# Altium footprint library PcbLib1.PcbLib: 5 footprints
Each footprint in its own frame and in the unit in brackets; x right, y up, seen from the top. Pads: shape width x height; smd on the part's side, far side on the other; paste and mask are expansions set on the pad; w line width, h text height; cw(c..) or ccw(c..) is an arc to the next point about the centre after c.
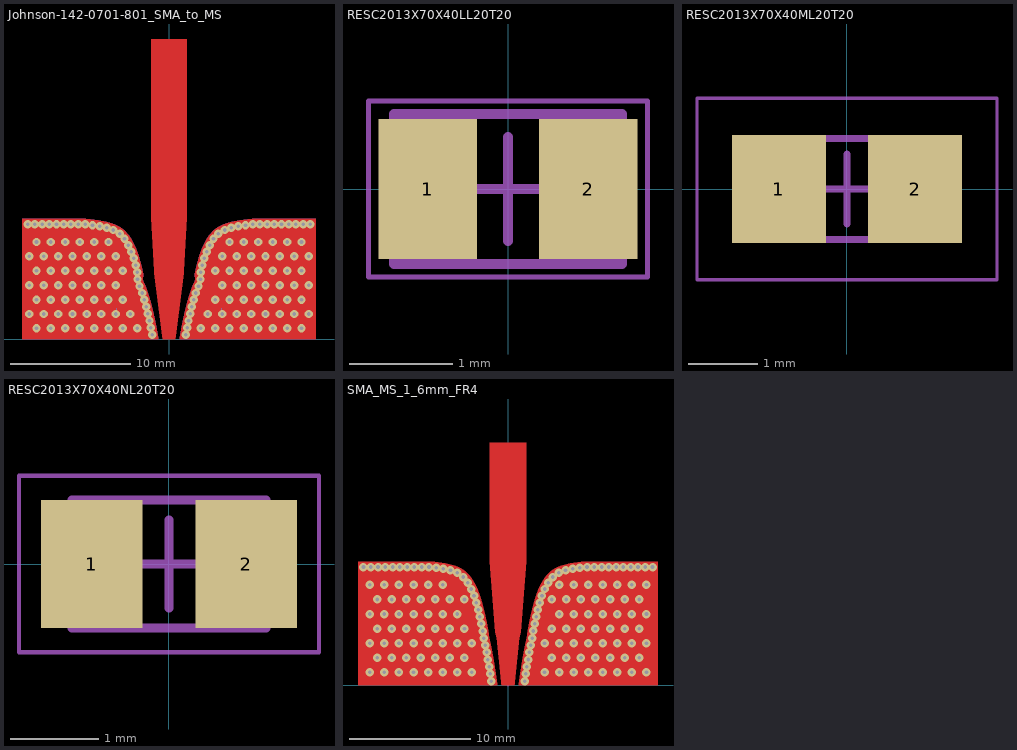
[diagram p0: the footprints below, top view; thin cyan lines are the x and y axes]

## Johnson-142-0701-801_SMA_to_MS [mil] "SMA 1.6mm to Microstrip"
pads (4):
  round 1 smd far side mask+0: 1(-172.5,98.43) 1(172.5,98.43)
  round 1 smd mask+0: 1(-172.5,98.43) 1(172.5,98.43)
via 387.56,223.63 diameter 27.56 hole 11.81
via -245.83,223.63 diameter 27.56 hole 11.81
via -293.07,129.14 diameter 27.56 hole 11.81
via 434.81,34.65 diameter 27.56 hole 11.81
via 151.34,34.65 diameter 27.56 hole 11.81
via 174.96,176.38 diameter 27.56 hole 11.81
via 245.83,223.63 diameter 27.56 hole 11.81
via -222.21,270.87 diameter 27.56 hole 11.81
via -363.94,270.87 diameter 27.56 hole 11.81
via 458.43,81.89 diameter 27.56 hole 11.81
via 293.07,223.63 diameter 27.56 hole 11.81
via 316.69,176.38 diameter 27.56 hole 11.81
via 245.83,318.11 diameter 27.56 hole 11.81
via -293.07,318.11 diameter 27.56 hole 11.81
via -387.56,223.63 diameter 27.56 hole 11.81
via 222.21,81.89 diameter 27.56 hole 11.81
via 245.83,129.14 diameter 27.56 hole 11.81
via 269.45,81.89 diameter 27.56 hole 11.81
via -458.43,81.89 diameter 27.56 hole 11.81
via 387.56,318.11 diameter 27.56 hole 11.81
via -104.1,34.65 diameter 27.56 hole 11.81
via 387.56,34.65 diameter 27.56 hole 11.81
via -198.58,318.11 diameter 27.56 hole 11.81
via -151.34,223.63 diameter 27.56 hole 11.81
via 269.45,270.87 diameter 27.56 hole 11.81
via 174.96,81.89 diameter 27.56 hole 11.81
via 104.1,34.65 diameter 27.56 hole 11.81
via 174.96,270.87 diameter 27.56 hole 11.81
via -411.18,81.89 diameter 27.56 hole 11.81
via -222.21,81.89 diameter 27.56 hole 11.81
via -340.32,34.65 diameter 27.56 hole 11.81
via 363.94,81.89 diameter 27.56 hole 11.81
via -198.58,223.63 diameter 27.56 hole 11.81
via -316.69,176.38 diameter 27.56 hole 11.81
via -387.56,129.14 diameter 27.56 hole 11.81
via -245.83,129.14 diameter 27.56 hole 11.81
via -151.34,34.65 diameter 27.56 hole 11.81
via -293.07,34.65 diameter 27.56 hole 11.81
via 293.07,34.65 diameter 27.56 hole 11.81
via -340.32,129.14 diameter 27.56 hole 11.81
via -340.32,223.63 diameter 27.56 hole 11.81
via -198.58,129.14 diameter 27.56 hole 11.81
via -198.58,34.65 diameter 27.56 hole 11.81
via -316.69,81.89 diameter 27.56 hole 11.81
via 127.72,81.89 diameter 27.56 hole 11.81
via 340.32,129.14 diameter 27.56 hole 11.81
via 151.34,223.63 diameter 27.56 hole 11.81
via 434.81,318.11 diameter 27.56 hole 11.81
via -316.69,270.87 diameter 27.56 hole 11.81
via 151.34,129.14 diameter 27.56 hole 11.81
via -363.94,176.38 diameter 27.56 hole 11.81
via 198.58,34.65 diameter 27.56 hole 11.81
via -434.81,318.11 diameter 27.56 hole 11.81
via 293.07,129.14 diameter 27.56 hole 11.81
via 411.18,270.87 diameter 27.56 hole 11.81
via 340.32,223.63 diameter 27.56 hole 11.81
via 316.69,270.87 diameter 27.56 hole 11.81
via -293.07,223.63 diameter 27.56 hole 11.81
via 245.83,34.65 diameter 27.56 hole 11.81
via 434.81,223.63 diameter 27.56 hole 11.81
via -458.43,176.38 diameter 27.56 hole 11.81
via -151.34,129.14 diameter 27.56 hole 11.81
via 340.32,34.65 diameter 27.56 hole 11.81
via 411.18,81.89 diameter 27.56 hole 11.81
via 363.94,270.87 diameter 27.56 hole 11.81
via -269.45,176.38 diameter 27.56 hole 11.81
via -269.45,81.89 diameter 27.56 hole 11.81
via 363.94,176.38 diameter 27.56 hole 11.81
via -387.56,34.65 diameter 27.56 hole 11.81
via -411.18,176.38 diameter 27.56 hole 11.81
via -340.32,318.11 diameter 27.56 hole 11.81
via -222.21,176.38 diameter 27.56 hole 11.81
via 316.69,81.89 diameter 27.56 hole 11.81
via 458.43,270.87 diameter 27.56 hole 11.81
via 411.18,176.38 diameter 27.56 hole 11.81
via -174.96,81.89 diameter 27.56 hole 11.81
via 387.56,129.14 diameter 27.56 hole 11.81
via -245.83,34.65 diameter 27.56 hole 11.81
via 293.07,318.11 diameter 27.56 hole 11.81
via 198.58,223.63 diameter 27.56 hole 11.81
via 198.58,318.11 diameter 27.56 hole 11.81
via 269.45,176.38 diameter 27.56 hole 11.81
via -127.72,81.89 diameter 27.56 hole 11.81
via 222.21,270.87 diameter 27.56 hole 11.81
via -434.81,34.65 diameter 27.56 hole 11.81
via -245.83,318.11 diameter 27.56 hole 11.81
via -174.96,270.87 diameter 27.56 hole 11.81
via -174.96,176.38 diameter 27.56 hole 11.81
via -458.43,270.87 diameter 27.56 hole 11.81
via 198.58,129.14 diameter 27.56 hole 11.81
via -434.81,223.63 diameter 27.56 hole 11.81
via -411.18,270.87 diameter 27.56 hole 11.81
via -269.45,270.87 diameter 27.56 hole 11.81
via 340.32,318.11 diameter 27.56 hole 11.81
via -434.81,129.14 diameter 27.56 hole 11.81
via 222.21,176.38 diameter 27.56 hole 11.81
via 434.81,129.14 diameter 27.56 hole 11.81
via 458.43,176.38 diameter 27.56 hole 11.81
via -387.56,318.11 diameter 27.56 hole 11.81
via -363.94,81.89 diameter 27.56 hole 11.81
via 133.73,308.18 diameter 27.56 hole 11.81
via 103.46,195.44 diameter 27.56 hole 11.81
via 274.49,376.09 diameter 27.56 hole 11.81
via 439.84,376.09 diameter 27.56 hole 11.81
via 64.04,59.85 diameter 27.56 hole 11.81
via 55.11,13.57 diameter 27.56 hole 11.81
via 74.68,105.76 diameter 27.56 hole 11.81
via 204.7,365.21 diameter 27.56 hole 11.81
via 145.87,328.4 diameter 27.56 hole 11.81
via 109.52,241.95 diameter 27.56 hole 11.81
via 392.6,376.09 diameter 27.56 hole 11.81
via 345.35,376.09 diameter 27.56 hole 11.81
via 251.09,373.33 diameter 27.56 hole 11.81
via 298.11,376.09 diameter 27.56 hole 11.81
via 463.46,376.09 diameter 27.56 hole 11.81
via 104.17,219 diameter 27.56 hole 11.81
via 227.77,369.96 diameter 27.56 hole 11.81
via 416.22,376.09 diameter 27.56 hole 11.81
via 88.17,150.9 diameter 27.56 hole 11.81
via 59.4,36.74 diameter 27.56 hole 11.81
via 115.91,264.63 diameter 27.56 hole 11.81
via 368.98,376.09 diameter 27.56 hole 11.81
via 96.85,172.79 diameter 27.56 hole 11.81
via 123.75,286.85 diameter 27.56 hole 11.81
via 162.11,345.52 diameter 27.56 hole 11.81
via 182.36,357.63 diameter 27.56 hole 11.81
via 321.73,376.09 diameter 27.56 hole 11.81
via 69.12,82.86 diameter 27.56 hole 11.81
via 80.95,128.47 diameter 27.56 hole 11.81
via -80.95,128.47 diameter 27.56 hole 11.81
via -69.12,82.86 diameter 27.56 hole 11.81
via -321.73,376.09 diameter 27.56 hole 11.81
via -182.36,357.63 diameter 27.56 hole 11.81
via -162.11,345.52 diameter 27.56 hole 11.81
via -123.75,286.85 diameter 27.56 hole 11.81
via -96.85,172.79 diameter 27.56 hole 11.81
via -368.98,376.09 diameter 27.56 hole 11.81
via -115.91,264.63 diameter 27.56 hole 11.81
via -59.4,36.74 diameter 27.56 hole 11.81
via -88.17,150.9 diameter 27.56 hole 11.81
via -416.22,376.09 diameter 27.56 hole 11.81
via -227.77,369.96 diameter 27.56 hole 11.81
via -104.17,219 diameter 27.56 hole 11.81
via -463.46,376.09 diameter 27.56 hole 11.81
via -298.11,376.09 diameter 27.56 hole 11.81
via -251.09,373.33 diameter 27.56 hole 11.81
via -345.35,376.09 diameter 27.56 hole 11.81
via -392.6,376.09 diameter 27.56 hole 11.81
via -109.52,241.95 diameter 27.56 hole 11.81
via -145.87,328.4 diameter 27.56 hole 11.81
via -204.7,365.21 diameter 27.56 hole 11.81
via -74.68,105.76 diameter 27.56 hole 11.81
via -55.11,13.57 diameter 27.56 hole 11.81
via -64.04,59.85 diameter 27.56 hole 11.81
via -439.84,376.09 diameter 27.56 hole 11.81
via -274.49,376.09 diameter 27.56 hole 11.81
via -103.46,195.44 diameter 27.56 hole 11.81
via -133.73,308.18 diameter 27.56 hole 11.81
Top Layer:
  drawing of 5 lines, arcs and shapes, not listed
Bottom Layer:
  drawing of 4 lines, arcs and shapes, not listed
Top Solder:
  region: 481.18,216.54 481.18,984.25 -481.18,984.25 -481.18,216.54
  region: -105.31,0.01 105.31,0.01 105.31,196.85 -105.31,196.85
  region: 196.85,0 -196.85,0 -196.85,19.68 196.85,19.68
3D body "142-0701-801.stp": height 171.35, standoff -140.65, extent -187.5,-374.99 187.5,187.01

## RESC2013X70X40LL20T20 [mm] "Chip Resistor, 2-Leads, Body 2.00x1.25mm, IPC High Density"
height 0.7
pads (2):
  rect 0.95x1.35 smd: 1(-0.775,0) 2(0.775,0)
Mechanical 13:
  lines w0.1: -1.1,-0.725 -1.1,0.725 1.1,0.725 1.1,-0.725 -1.1,-0.725
Mechanical 15:
  lines w0.05: -1.35,-0.85 -1.35,0.85 1.35,0.85 1.35,-0.85 -1.35,-0.85
  lines w0.1: -0.5,0 0.5,0 ; 0,-0.5 0,0.5
3D body: height 0.7, standoff 0, extent -0.7,-0.725 0.7,0.725
3D body: height 0.7, standoff 0, extent -1.1,-0.725 -0.7,0.725
3D body: height 0.7, standoff 0, extent 0.7,-0.725 1.1,0.725

## RESC2013X70X40ML20T20 [mm] "Chip Resistor, 2-Leads, Body 2.00x1.25mm, IPC Low Density"
height 0.7
pads (2):
  rect 1.35x1.55 smd: 1(-0.975,0) 2(0.975,0)
Mechanical 13:
  lines w0.1: -1.1,-0.725 1.1,-0.725 1.1,0.725 -1.1,0.725 -1.1,-0.725
Mechanical 15:
  lines w0.05: -2.15,-1.3 2.15,-1.3 2.15,1.3 -2.15,1.3 -2.15,-1.3
  lines w0.1: -0.5,0 0.5,0 ; 0,-0.5 0,0.5
3D body: height 0.7, standoff 0, extent 0.7,-0.725 1.1,0.725
3D body: height 0.7, standoff 0, extent -1.1,-0.725 -0.7,0.725
3D body: height 0.7, standoff 0, extent -0.7,-0.725 0.7,0.725

## RESC2013X70X40NL20T20 [mm] "Chip Resistor, 2-Leads, Body 2.00x1.25mm, IPC Medium Density"
height 0.7
pads (2):
  rect 1.15x1.45 smd: 1(-0.875,0) 2(0.875,0)
Mechanical 13:
  lines w0.1: -1.1,-0.725 -1.1,0.725 1.1,0.725 1.1,-0.725 -1.1,-0.725
Mechanical 15:
  lines w0.05: -1.7,-1 -1.7,1 1.7,1 1.7,-1 -1.7,-1
  lines w0.1: -0.5,0 0.5,0 ; 0,-0.5 0,0.5
3D body: height 0.7, standoff 0, extent -0.7,-0.725 0.7,0.725
3D body: height 0.7, standoff 0, extent -1.1,-0.725 -0.7,0.725
3D body: height 0.7, standoff 0, extent 0.7,-0.725 1.1,0.725

## SMA_MS_1_6mm_FR4 [mm]
via 2.087,4.477 diameter 0.7 hole 0.3
via 2.322,5.652 diameter 0.7 hole 0.3
via 2.459,6.235 diameter 0.7 hole 0.3
via 2.199,5.066 diameter 0.7 hole 0.3
via 2.615,6.813 diameter 0.7 hole 0.3
via 1.38,0.347 diameter 0.7 hole 0.3
via 6.515,9.749 diameter 0.7 hole 0.3
via 4.745,9.472 diameter 0.7 hole 0.3
via 5.326,9.614 diameter 0.7 hole 0.3
via 4.179,9.276 diameter 0.7 hole 0.3
via 5.919,9.694 diameter 0.7 hole 0.3
via 7.115,9.749 diameter 0.7 hole 0.3
via 3.695,8.924 diameter 0.7 hole 0.3
via 8.915,9.749 diameter 0.7 hole 0.3
via 9.515,9.749 diameter 0.7 hole 0.3
via 7.715,9.749 diameter 0.7 hole 0.3
via 8.315,9.749 diameter 0.7 hole 0.3
via 1.655,2.122 diameter 0.7 hole 0.3
via 1.465,0.94 diameter 0.7 hole 0.3
via 2.003,3.885 diameter 0.7 hole 0.3
via 1.878,3.299 diameter 0.7 hole 0.3
via 1.556,1.532 diameter 0.7 hole 0.3
via 1.761,2.712 diameter 0.7 hole 0.3
via 11.315,9.749 diameter 0.7 hole 0.3
via 3.021,7.938 diameter 0.7 hole 0.3
via 10.715,9.749 diameter 0.7 hole 0.3
via 2.797,7.383 diameter 0.7 hole 0.3
via 3.317,8.459 diameter 0.7 hole 0.3
via 10.115,9.749 diameter 0.7 hole 0.3
via 11.915,9.749 diameter 0.7 hole 0.3
via -11.915,9.747 diameter 0.7 hole 0.3
via -10.115,9.747 diameter 0.7 hole 0.3
via -3.317,8.457 diameter 0.7 hole 0.3
via -2.797,7.381 diameter 0.7 hole 0.3
via -10.715,9.747 diameter 0.7 hole 0.3
via -3.021,7.936 diameter 0.7 hole 0.3
via -11.315,9.747 diameter 0.7 hole 0.3
via -1.761,2.71 diameter 0.7 hole 0.3
via -1.556,1.53 diameter 0.7 hole 0.3
via -1.878,3.297 diameter 0.7 hole 0.3
via -2.003,3.883 diameter 0.7 hole 0.3
via -1.465,0.938 diameter 0.7 hole 0.3
via -1.655,2.12 diameter 0.7 hole 0.3
via -8.315,9.747 diameter 0.7 hole 0.3
via -7.715,9.747 diameter 0.7 hole 0.3
via -9.515,9.747 diameter 0.7 hole 0.3
via -8.915,9.747 diameter 0.7 hole 0.3
via -3.695,8.922 diameter 0.7 hole 0.3
via -7.115,9.747 diameter 0.7 hole 0.3
via -5.919,9.692 diameter 0.7 hole 0.3
via -4.179,9.274 diameter 0.7 hole 0.3
via -5.326,9.612 diameter 0.7 hole 0.3
via -4.745,9.47 diameter 0.7 hole 0.3
via -6.515,9.747 diameter 0.7 hole 0.3
via -1.38,0.345 diameter 0.7 hole 0.3
via -2.615,6.811 diameter 0.7 hole 0.3
via -2.199,5.064 diameter 0.7 hole 0.3
via -2.459,6.233 diameter 0.7 hole 0.3
via -2.322,5.65 diameter 0.7 hole 0.3
via -2.087,4.475 diameter 0.7 hole 0.3
via -11.388,1.076 diameter 0.7 hole 0.3
via -10.788,2.276 diameter 0.7 hole 0.3
via -11.388,3.476 diameter 0.7 hole 0.3
via -10.788,4.676 diameter 0.7 hole 0.3
via -11.388,5.876 diameter 0.7 hole 0.3
via -10.788,7.076 diameter 0.7 hole 0.3
via -11.388,8.276 diameter 0.7 hole 0.3
via -10.188,1.076 diameter 0.7 hole 0.3
via -9.588,2.276 diameter 0.7 hole 0.3
via -10.188,3.476 diameter 0.7 hole 0.3
via -9.588,4.676 diameter 0.7 hole 0.3
via -10.188,5.876 diameter 0.7 hole 0.3
via -9.588,7.076 diameter 0.7 hole 0.3
via -10.188,8.276 diameter 0.7 hole 0.3
via -8.988,1.076 diameter 0.7 hole 0.3
via -8.388,2.276 diameter 0.7 hole 0.3
via -8.988,3.476 diameter 0.7 hole 0.3
via -8.388,4.676 diameter 0.7 hole 0.3
via -8.988,5.876 diameter 0.7 hole 0.3
via -8.388,7.076 diameter 0.7 hole 0.3
via -8.988,8.276 diameter 0.7 hole 0.3
via -7.788,1.076 diameter 0.7 hole 0.3
via -7.188,2.276 diameter 0.7 hole 0.3
via -7.788,3.476 diameter 0.7 hole 0.3
via -7.188,4.676 diameter 0.7 hole 0.3
via -7.788,5.876 diameter 0.7 hole 0.3
via -7.188,7.076 diameter 0.7 hole 0.3
via -7.788,8.276 diameter 0.7 hole 0.3
via -6.588,1.076 diameter 0.7 hole 0.3
via -5.988,2.276 diameter 0.7 hole 0.3
via -6.588,3.476 diameter 0.7 hole 0.3
via -5.988,4.676 diameter 0.7 hole 0.3
via -6.588,5.876 diameter 0.7 hole 0.3
via -5.988,7.076 diameter 0.7 hole 0.3
via -6.588,8.276 diameter 0.7 hole 0.3
via -5.388,1.076 diameter 0.7 hole 0.3
via -4.788,2.276 diameter 0.7 hole 0.3
via -5.388,3.476 diameter 0.7 hole 0.3
via -4.788,4.676 diameter 0.7 hole 0.3
via -5.388,5.876 diameter 0.7 hole 0.3
via -4.788,7.076 diameter 0.7 hole 0.3
via -5.388,8.276 diameter 0.7 hole 0.3
via -4.188,1.076 diameter 0.7 hole 0.3
via -3.588,2.276 diameter 0.7 hole 0.3
via -4.188,3.476 diameter 0.7 hole 0.3
via -3.588,4.676 diameter 0.7 hole 0.3
via -4.188,5.876 diameter 0.7 hole 0.3
via -3.588,7.076 diameter 0.7 hole 0.3
via -2.988,1.076 diameter 0.7 hole 0.3
via -2.988,3.476 diameter 0.7 hole 0.3
via 3.012,1.076 diameter 0.7 hole 0.3
via 3.612,2.276 diameter 0.7 hole 0.3
via 3.012,3.476 diameter 0.7 hole 0.3
via 3.612,4.676 diameter 0.7 hole 0.3
via 3.612,7.076 diameter 0.7 hole 0.3
via 4.212,1.076 diameter 0.7 hole 0.3
via 4.812,2.276 diameter 0.7 hole 0.3
via 4.212,3.476 diameter 0.7 hole 0.3
via 4.812,4.676 diameter 0.7 hole 0.3
via 4.212,5.876 diameter 0.7 hole 0.3
via 4.812,7.076 diameter 0.7 hole 0.3
via 4.212,8.276 diameter 0.7 hole 0.3
via 5.412,1.076 diameter 0.7 hole 0.3
via 6.012,2.276 diameter 0.7 hole 0.3
via 5.412,3.476 diameter 0.7 hole 0.3
via 6.012,4.676 diameter 0.7 hole 0.3
via 5.412,5.876 diameter 0.7 hole 0.3
via 6.012,7.076 diameter 0.7 hole 0.3
via 5.412,8.276 diameter 0.7 hole 0.3
via 6.612,1.076 diameter 0.7 hole 0.3
via 7.212,2.276 diameter 0.7 hole 0.3
via 6.612,3.476 diameter 0.7 hole 0.3
via 7.212,4.676 diameter 0.7 hole 0.3
via 6.612,5.876 diameter 0.7 hole 0.3
via 7.212,7.076 diameter 0.7 hole 0.3
via 6.612,8.276 diameter 0.7 hole 0.3
via 7.812,1.076 diameter 0.7 hole 0.3
via 8.412,2.276 diameter 0.7 hole 0.3
via 7.812,3.476 diameter 0.7 hole 0.3
via 8.412,4.676 diameter 0.7 hole 0.3
via 7.812,5.876 diameter 0.7 hole 0.3
via 8.412,7.076 diameter 0.7 hole 0.3
via 7.812,8.276 diameter 0.7 hole 0.3
via 9.012,1.076 diameter 0.7 hole 0.3
via 9.612,2.276 diameter 0.7 hole 0.3
via 9.012,3.476 diameter 0.7 hole 0.3
via 9.612,4.676 diameter 0.7 hole 0.3
via 9.012,5.876 diameter 0.7 hole 0.3
via 9.612,7.076 diameter 0.7 hole 0.3
via 9.012,8.276 diameter 0.7 hole 0.3
via 10.212,1.076 diameter 0.7 hole 0.3
via 10.812,2.276 diameter 0.7 hole 0.3
via 10.212,3.476 diameter 0.7 hole 0.3
via 10.812,4.676 diameter 0.7 hole 0.3
via 10.212,5.876 diameter 0.7 hole 0.3
via 10.812,7.076 diameter 0.7 hole 0.3
via 10.212,8.276 diameter 0.7 hole 0.3
via 11.412,1.076 diameter 0.7 hole 0.3
via 11.412,3.476 diameter 0.7 hole 0.3
via 11.412,5.876 diameter 0.7 hole 0.3
via 11.412,8.276 diameter 0.7 hole 0.3
Top Layer:
  drawing of 4 lines, arcs and shapes, not listed
Top Solder:
  rectangle: -4.246,0.001 3.961,4
Mechanical 1:
  lines w0.2: 0,0 0,3.8 ; 0,4 0,4.5
3D body "32322_3d_model_file.step": height 3.55, standoff -2.8, extent -3.175,-9.53 3.175,3.8